# Altium schematic symbol library Schlib1.SchLib: 1 symbol
Pins are listed as number, name and electrical type; pins without a type are passive.

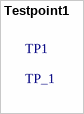
[diagram p0: symbol Testpoint1]

## Testpoint1
designator TP1, comment TP_1  (no BOM)
footprint Testpoint1
1 alternate drawing of the same symbol